# Altium schematic symbol library MCP73871-2AAIML.SchLib: 1 symbol
Pins are listed as number, name and electrical type; pins without a type are passive.

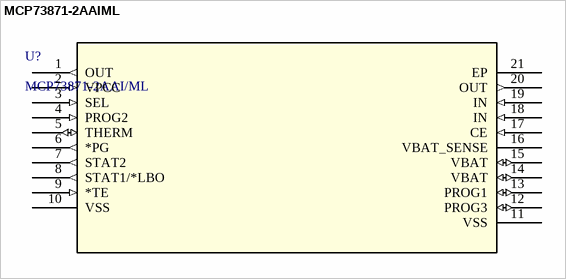
[diagram p0: symbol MCP73871-2AAIML]

## MCP73871-2AAIML
designator U?, comment MCP73871-2AAI/ML
No Description Available; Manufacturer_Name: Microchip; Copyright: Copyright (C) 2025 Ultra Librarian. All rights reserved.; Manufacturer_Part_Number: MCP73871-2AAI/ML; RefDes: RefDes; Type: Type
footprint QFN20_4x4MC_MCH
pins: 1 OUT (out), 2 VPCC (in), 3 SEL (in), 4 PROG2 (in), 5 THERM (io), 6 *PG (out), 7 STAT2 (out), 8 STAT1/*LBO (out), 9 *TE (in), 10 VSS (power), 11 VSS (power), 12 PROG3 (io), 13 PROG1 (io), 14 VBAT (io), 15 VBAT (io), 16 VBAT_SENSE, 17 CE (in), 18 IN (in), 19 IN (in), 20 OUT (out), 21 EP